# Altium footprint library RCDQLY.PCBLIB: 122 footprints (part 7 of 8)
Each footprint in its own frame and in the unit in brackets; x right, y up, seen from the top. Pads: shape width x height; smd on the part's side, far side on the other; paste and mask are expansions set on the pad; w line width, h text height; cw(c..) or ccw(c..) is an arc to the next point about the centre after c.
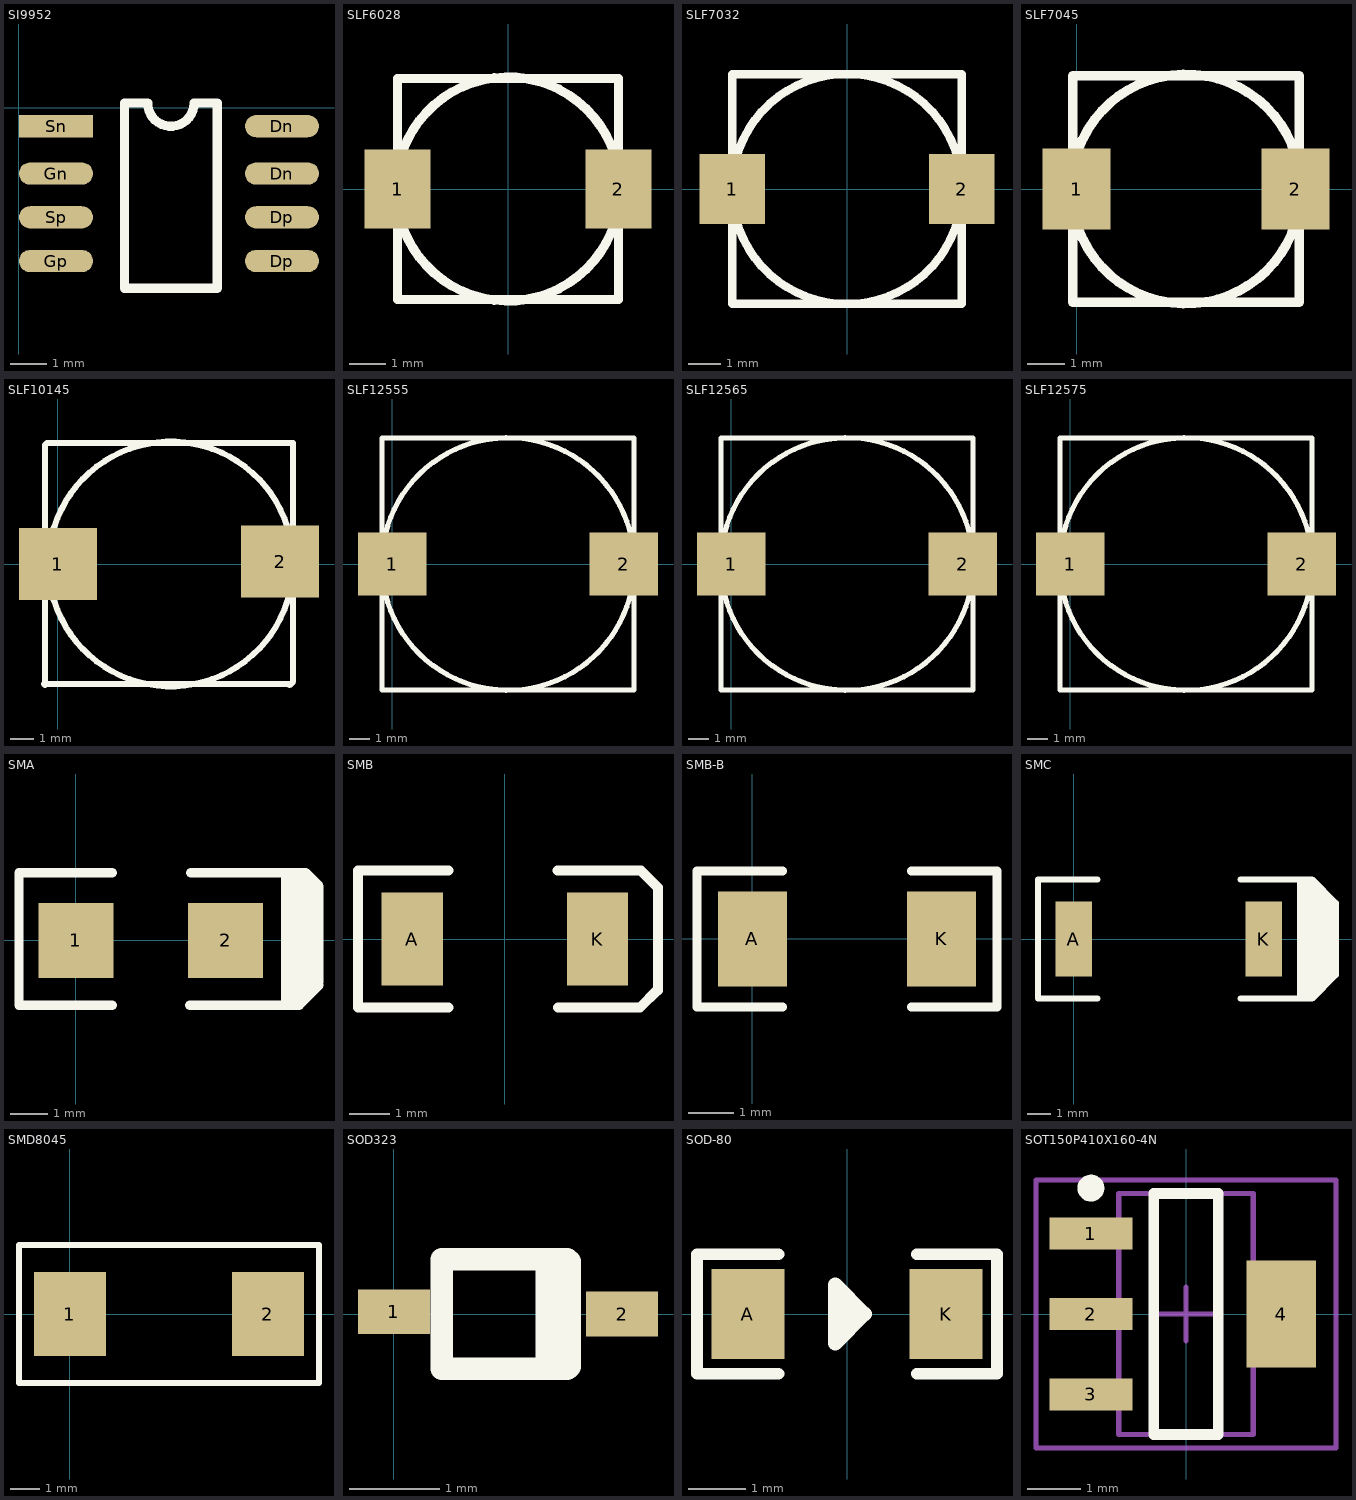
[diagram p6: the footprints below, top view; thin cyan lines are the x and y axes]

## SI9952 [mil]
pads (8):
  oval 80x24 smd: Dn(284.41,-71.18) Dn(284.41,-20) Dp(284.41,-165.67) Dp(284.41,-118.42) Gn(40.31,-71.18) Gp(40.31,-165.67) Sp(40.31,-118.42)
  rect 80x24 smd: Sn(40.31,-20)
TopOverlay:
  lines w10: 114.39,-195.06 114.39,4.94 139.39,4.94 ccw(c164.39,4.94) 189.39,4.94 214.39,4.94 214.39,-195.06 114.39,-195.06

## SLF6028 [mm]
pads (2):
  rect 1.8x2.15 smd: 1(-3,0) 2(3,0)
TopOverlay:
  circle w0.254: c0,0 r3.041
  lines w0.254: -3,-3 -3,3 3,3 3,-3 -3,-3

## SLF7032 [mm]
pads (2):
  rect 2x2.15 smd: 1(-3.5,0) 2(3.5,0)
TopOverlay:
  circle w0.254: c0,0 r3.509
  lines w0.254: -3.5,-3.5 -3.5,3.5 3.5,3.5 3.5,-3.5 -3.5,-3.5

## SLF7045 [mm]
pads (2):
  rect 1.8x2.15 smd: 1(0,0) 2(5.8,0)
TopOverlay:
  circle w0.254: c2.9,0 r3.041
  lines w0.254: -0.1,-3 5.9,-3 5.9,3 -0.1,3 -0.1,-3

## SLF10145 [mil]
pads (2):
  rect 130x120 smd: 1(0,0) 2(370.08,3.94)
TopOverlay:
  circle w10: c188.04,0 r204.01
  lines w10: -22.96,-200 385.04,-200 ; -21.96,-202 -21.96,0 ; -21.96,-12 -21.96,198 -17.96,202 392.04,202 392.04,-196 ; 392.04,-196 386.04,-202 392.04,-196

## SLF12555 [mm]
pads (2):
  rect 3.4x3.15 smd: 1(0,0) 2(11.5,0)
TopOverlay:
  circle w0.254: c5.75,0 r6.27
  lines w0.254: -0.5,-6.25 12,-6.25 12,6.25 -0.5,6.25 -0.5,-6.25

## SLF12565 [mm]
pads (2):
  rect 3.4x3.15 smd: 1(0,0) 2(11.5,0)
TopOverlay:
  circle w0.254: c5.75,0 r6.27
  lines w0.254: -0.5,-6.25 -0.5,6.25 12,6.25 12,-6.25 -0.5,-6.25

## SLF12575 [mm]
pads (2):
  rect 3.4x3.15 smd: 1(0,0) 2(11.5,0)
TopOverlay:
  circle w0.254: c5.75,0 r6.27
  lines w0.254: -0.5,-6.25 -0.5,6.25 12,6.25 12,-6.25 -0.5,-6.25

## SMA [mm]
pads (2):
  rect 2x2 smd: 1(0,0) 2(4,0)
TopOverlay:
  rectangle: 5.486,-1.27 6.379,1.241
  rectangle: 5.486,-1.626 6.223,1.803
  lines w0.254: 0.965,-1.727 -1.524,-1.727 -1.524,1.803 0.965,1.803 ; 3.048,-1.727 5.969,-1.727 6.498,-1.198 ; 3.073,1.803 6.147,1.803 6.498,1.452 6.498,-1.122 6.096,-1.524 ; 6.147,1.499 6.498,1.147 ; 6.262,1.033 6.262,0.825 6.431,0.995 6.498,0.995

## SMB [mm]
pads (2):
  rect 1.52x2.3 smd: A(-2.3,0) K(2.3,0)
TopOverlay:
  lines w0.254: -3.649,-1.702 -3.649,1.702 ; -3.649,-1.7 -1.406,-1.7 ; -3.649,1.7 -1.401,1.7 ; 1.307,1.7 3.353,1.7 ; 1.325,-1.7 3.353,-1.7 3.783,-1.27 ; 3.371,1.7 3.801,1.27 3.801,-1.27

## SMB-B [mil]
pads (2):
  rect 60x82 smd: A(0,0) K(164,0)
TopOverlay:
  lines w8: 26,-59 -48,-59 -48,59 26,59 ; 138,-59 212,-59 212,59 138,59

## SMC [mm]
pads (2):
  rect 1.55x3.2 smd: A(0,0) K(8.1,0)
TopOverlay:
  rectangle: 10.033,2.286 10.332,2.368
  rectangle: 10.344,1.975 10.552,2.148
  rectangle: 10.668,1.685 10.937,1.763
  rectangle: 10.611,1.708 10.798,1.902
  rectangle: 10.668,1.27 11.015,1.685
  rectangle: 10.541,-1.905 10.795,-1.397
  rectangle: 10.287,1.27 10.668,2.032
  rectangle: 9.906,-2.286 10.541,-1.397
  rectangle: 10.033,1.397 10.414,2.286
  rectangle: 10.16,-1.524 11.176,1.524
  rectangle: 9.652,-2.54 10.16,2.54
  lines w0.254: 1.016,-2.54 -1.524,-2.54 -1.524,2.54 1.016,2.54 ; 7.112,-2.54 9.652,-2.54 ; 7.112,2.54 9.652,2.54 ; 10.033,2.286 10.922,1.397 ; 10.922,-1.524 10.16,-2.286 10.16,-2.54 ; 9.652,-2.54 10.16,-2.54 ; 9.652,-2.54 9.652,2.54 ; 9.652,2.54 10.16,2.54 ; 10.16,-2.54 11.176,-1.524 11.176,1.524 ; 10.16,2.54 11.176,1.524 ; 10.16,2.54 11.176,1.524

## SMD8045 [mm]
pads (2):
  rect 2.4x2.8 smd: 1(0,0) 2(6.6,0)
TopOverlay:
  lines w0.203: -1.7,-2.3 -1.7,2.3 8.253,2.3 ; -1.653,-2.3 8.3,-2.3 8.3,2.3

## SOD323 [mm]
pads (2):
  rect 0.8x0.5 smd: 1(0,0.025) 2(2.54,0)
TopOverlay:
  lines w0.254: 1.702,-0.61 1.702,0.61 ; 1.93,0.61 0.533,0.61 0.533,-0.61 1.93,-0.61 1.956,-0.584 1.956,0.584

## SOD-80 [mil]
pads (2):
  rect 50x62 smd: A(-68,0) K(68,0)
TopOverlay:
  lines w8: -47,-41 -103,-41 -103,41 -47,41 ; 48,-41 103,-41 103,41 48,41
  lines w10: -8,-10 -3,-10 2,-5 2,0 -1.96,3.96 -8,10 -8,20 ; -8,20 -8,-20 12,0 -8,20

## SOT150P410X160-4N [mm] "SOT223, 4-Leads, Body 4.5x4.2mm (max), Pitch 1.50mm, IPC Medium Density"
height 1.6
pads (4):
  rect 1.55x0.6 smd: 1(-1.775,1.5) 2(-1.775,0) 3(-1.775,-1.5)
  rect 1.3x2 smd: 4(1.775,0)
TopOverlay:
  circle w0.25: c-1.775,2.35 r0.125
  lines w0.2: -0.6,-2.25 0.6,-2.25 0.6,2.25 -0.6,2.25 -0.6,-2.25
Mechanical13:
  lines w0.1: -1.255,-2.25 1.255,-2.25 1.255,2.25 -1.255,2.25 -1.255,-2.25
Mechanical15:
  lines w0.1: -0.5,0 0.5,0 ; 0,-0.5 0,0.5 ; -2.8,-2.5 2.8,-2.5 2.8,2.5 -2.8,2.5 -2.8,-2.5
3D body: height 1.6, standoff 0.45, extent -1.255,-2.25 1.255,2.25